# EAGLE library part MAGJACK-DUALUSB (library kmod-connectors)
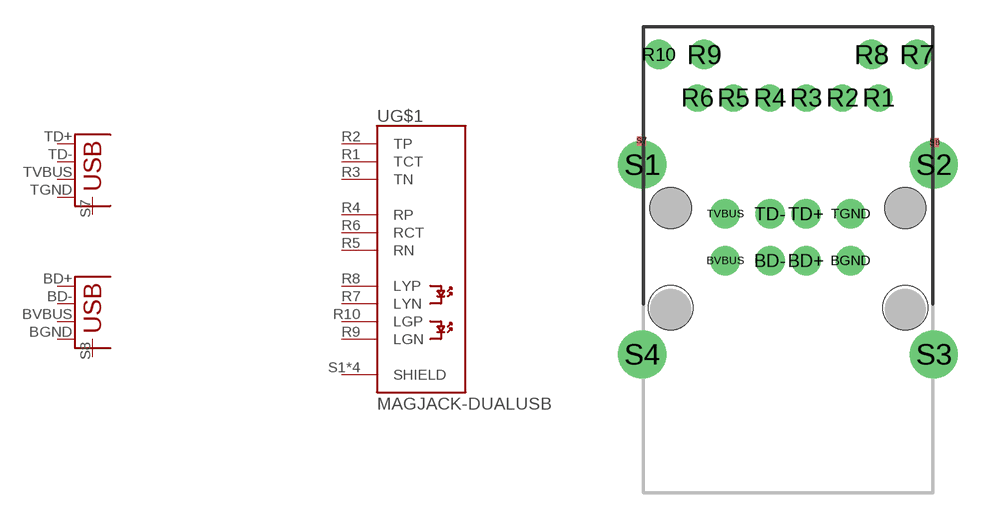
[diagram p14: symbol with the pads of MAGJACK-DUALUSB; footprint MAGJACK-DUALUSB]

Designator prefix -; gates G$1=MAGJACK-SPLIT G$2=USB G$3=USB

## MAGJACK-DUALUSB  [MAGJACK-DUALUSB]
BD+  G$3:D+
BD-  G$3:D-
BGND  G$3:GND
BVBUS  G$3:VBUS
R1  G$1:TCT
R2  G$1:TP
R3  G$1:TN
R4  G$1:RP
R5  G$1:RN
R6  G$1:RCT
R7  G$1:LYN
R8  G$1:LYP
R9  G$1:LGN
R10  G$1:LGP
S1  G$1:SHIELD
S2  G$1:SHIELD
S3  G$1:SHIELD
S4  G$1:SHIELD
S7  G$2:SHELL
S8  G$3:SHELL
TD+  G$2:D+
TD-  G$2:D-
TGND  G$2:GND
TVBUS  G$2:VBUS

## Footprint MAGJACK-DUALUSB (pad centres in mm)
Ethernet jack with integrated magnetics, with dual usb ports Meant for these parts: http://www.digikey.com/product-detail/en/08C2-1X1T-36/507-1450-ND/2108015 http://www.digikey.com/product-detail/en/ARJU31A-MASA-AD-B-E-LU2/ARJU31A-MASA-AD-B-E-LU2-ND/3059481 Note: the two footprints are very slightly different, ex in the placement of the shield pin holes. I just made those holes slightly larger to hopefully accomodate both. Mismatched holes have marks for their original specifications: tdocu is for the belfuse part and bdocu for the abracon one. Others may work but I haven't checked the drawings; these were the two cheapest ones and they seem to have the same footprint. Since the USB symbol assumes it will have it's own shield pins, I added some SMD pads that overlap with the real through-hole pins. If we connect those to the usb shield pins and the through-hole pads to the ethernet shield pins, we'll get DRC errors on the board until we connect them together in the schematic, forcing us to do that.
drill 1.1: BD+ 1.005,-9.1; BD- -1.005,-9.1; BGND 3.505,-9.1; BVBUS -3.505,-9.1; R7 7.225,2.44; R8 4.685,2.44; R9 -4.685,2.44; R10 -7.225,2.44; TD+ 1.005,-6.48; TD- -1.005,-6.48; TGND 3.505,-6.48; TVBUS -3.505,-6.48
drill 1: R1 5.075,0; R2 3.045,0; R3 1.015,0; R4 -1.015,0; R5 -3.045,0; R6 -5.075,0
drill 1.8 pad 2.4: S1 -8.165,-3.73; S2 8.165,-3.73; S3 8.165,-14.35; S4 -8.165,-14.35
smd 0.5 x 0.5: S7 -8.2,-2.4; S8 8.2,-2.5
hole 2.3 at -6.565,-6.15
hole 2.3 at 6.565,-6.15
hole 2.5 at -6.565,-11.74
hole 2.5 at 6.565,-11.74